# EAGLE library part CNY70-ARRAY-HEADER (library Sensores)
Arreglo de sensores reflexivos para seguimiento de linea, señal digital de 1 cm a 1.5 cm. SCI ->Sensor Central Izquierdo ; SSI ->Sensor Superior Izquierdo ; SII ->Sensor Inferior Izquierdo ; SID ->Sensor Inferior Derecho ; SSD ->Sensor Superior Derecho ; SCD ->Sensor Central Derecho ; SF -> Sensor Frontal;
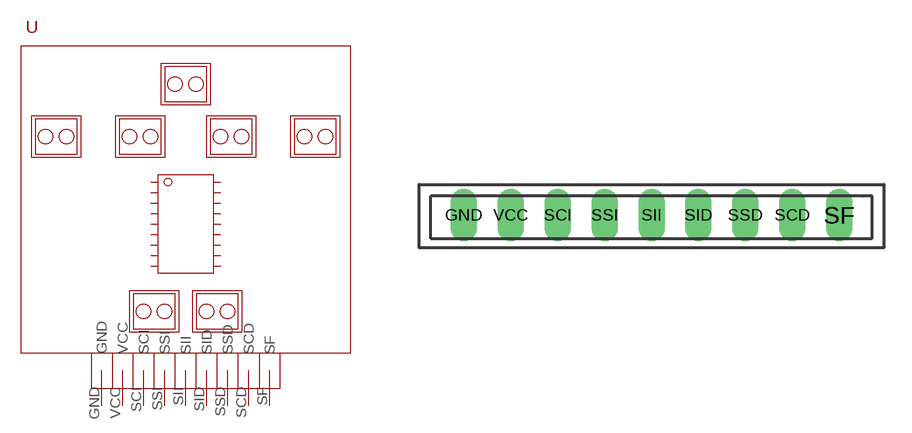
[diagram p3: symbol with the pads of CNY70-ARRAY-HEADER; footprint CNY70-ARRAY-HEADER]

Designator prefix -

## CNY70-ARRAY-HEADER  [CNY70-ARRAY-HEADER]
GND  GND
SCD  SCD
SCI  SCI
SF  SF
SID  SID
SII  SII
SSD  SSD
SSI  SSI
VCC  VCC

## Footprint CNY70-ARRAY-HEADER (pad centres in mm)
drill 0.6 pad 1.422 long: GND -10.16,0; SCD 7.62,0; SCI -5.08,0; SF 10.16,0; SID 2.54,0; SII 0,0; SSD 5.08,0; SSI -2.54,0; VCC -7.62,0